# Altium footprint library PCB11.PcbLib: 19 footprints (part 1 of 2)
Each footprint in its own frame and in the unit in brackets; x right, y up, seen from the top. Pads: shape width x height; smd on the part's side, far side on the other; paste and mask are expansions set on the pad; w line width, h text height; cw(c..) or ccw(c..) is an arc to the next point about the centre after c.
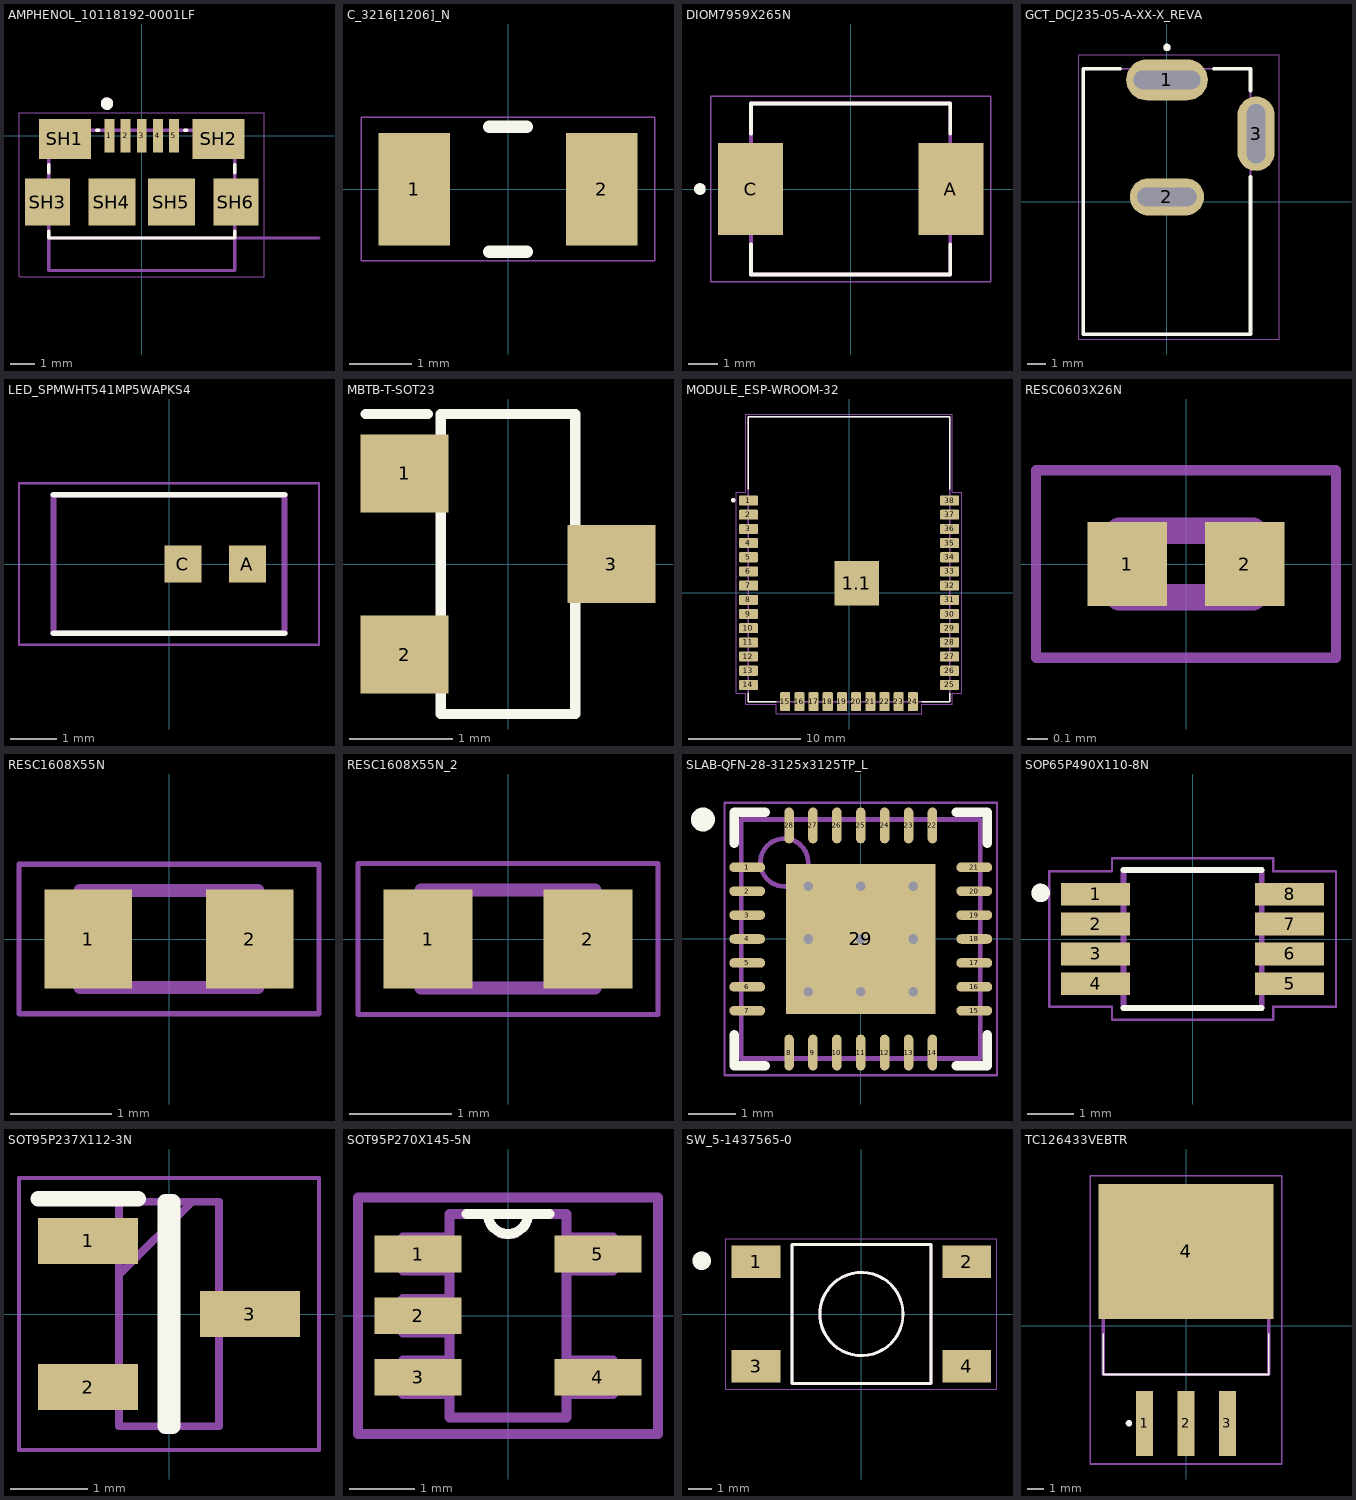
[diagram p0: the footprints below, top view; thin cyan lines are the x and y axes]

## AMPHENOL_10118192-0001LF [mm]
pads (11):
  rect 0.4x1.35 smd: 1(-1.3,0) 2(-0.65,0) 3(0,0) 4(0.65,0) 5(1.3,0)
  rect 2.1x1.6 smd: SH1(-3.1,-0.125) SH2(3.1,-0.125)
  rect 1.8x1.9 smd: SH3(-3.8,-2.675) SH6(3.8,-2.675)
  rect 1.9x1.9 smd: SH4(-1.2,-2.675) SH5(1.2,-2.675)
Top Overlay:
  circle w0.3: c-1.4,1.3 r0.1
  lines w0.127: -3.75,-3.85 -3.75,-4.125 3.75,-4.125 3.75,-3.85 ; -3.75,-1.5 -3.75,-1.15 ; -1.83,0.225 -1.72,0.225 ; 1.72,0.225 1.83,0.225 ; 3.75,-1.5 3.75,-1.15
Mechanical 13:
  circle w0.3: c-1.4,1.3 r0.1
  lines w0.127: 7.15,-4.125 3.75,-4.125 ; -3.75,-4.125 -3.75,-5.436 3.75,-5.436 3.75,-4.125 ; -3.75,-4.125 -3.75,0.225 3.75,0.225 3.75,-4.125 ; -3.75,-4.125 3.75,-4.125
  text "PCB Edge" at -4.145,-7.019 h0.81
Mechanical 15:
  lines w0.05: -4.95,-5.686 4.95,-5.686 4.95,0.925 -4.95,0.925 -4.95,-5.686
3D body "step_temp.STEP": height 2.7, standoff -0.27, extent -3.95,-2.41 3.95,3.21

## C_3216[1206]_N [mm]
pads (2):
  rect 1.15x1.8 smd: 1(-1.5,0) 2(1.5,0)
Top Overlay:
  lines w0.2: -0.3,-1 0.3,-1 ; -0.3,1 0.3,1
Mechanical 15:
  lines w0.025: -2.35,-1.15 -2.35,1.15 2.35,1.15 2.35,-1.15 -2.35,-1.15
3D body "SW3dPS-1206 SMD Capacitor.STEP": height 1, standoff 0, extent -1.6,-0.8 1.6,0.8

## DIOM7959X265N [mm]
pads (2):
  rect 2.25x3.18 smd: A(3.455,0) C(-3.455,0)
Top Overlay:
  circle w0.2: c-5.2,0 r0.1
  lines w0.127: -3.437,-1.91 -3.437,-2.95 3.437,-2.95 3.437,-1.91 ; -3.437,1.91 -3.437,2.95 3.437,2.95 3.437,1.91
Mechanical 13:
  circle w0.2: c-5.2,0 r0.1
  lines w0.127: -3.437,-2.95 -3.437,2.95 3.437,2.95 3.437,-2.95 -3.437,-2.95
Mechanical 15:
  lines w0.05: -4.83,-3.2 4.83,-3.2 4.83,3.2 -4.83,3.2 -4.83,-3.2
3D body "step_temp.STEP": height 1.2, standoff -1.41, extent -3.975,-2.95 3.975,2.95

## GCT_DCJ235-05-A-XX-X_REVA [mm]
pads (3):
  oval 4.4x2.2 hole 1 slot 3.6 at 0 deg: 1(0,6.55)
  oval 4x2 hole 1 slot 3.2 at 0 deg: 2(0,0.25)
  oval 2x4 hole 1 slot 3.2 at 90 deg: 3(4.8,3.65)
Top Overlay:
  circle w0.2: c0,8.3 r0.1
  lines w0.2: -2.52,7.15 -4.5,7.15 -4.5,-7.15 4.5,-7.15 4.5,1.33 ; 2.52,7.15 4.5,7.15 4.5,5.97
Mechanical 13:
  circle w0.2: c0,8.3 r0.1
  lines w0.1: -4.5,-7.15 4.5,-7.15 4.5,7.15 -4.5,7.15 -4.5,-7.15
Mechanical 15:
  lines w0.05: -4.75,-7.4 6.05,-7.4 6.05,7.9 -4.75,7.9 -4.75,-7.4

## LED_SPMWHT541MP5WAPKS4 [mm]
pads (2):
  rect 0.8x0.8 smd paste-1 mask+0: A(1.7,0) C(0.3,0)
Top Overlay:
  lines w0.127: -2.5,-1.5 2.5,-1.5 ; -2.5,1.5 2.5,1.5
Mechanical 13:
  lines w0.127: -2.5,-1.5 -2.5,1.5 2.5,1.5 2.5,-1.5 -2.5,-1.5
Mechanical 15:
  lines w0.05: -3.25,-1.75 -3.25,1.75 3.25,1.75 3.25,-1.75 -3.25,-1.75
3D body "step_temp.STEP": height 0.8, standoff 0, extent -2.8,-1.5 2.8,1.5

## MBTB-T-SOT23 [mm]
pads (3):
  rect 0.85x0.75 smd: 1(-1,0.875) 2(-1,-0.875) 3(1,0)
Top Overlay:
  lines w0.1: -1.375,1.45 -0.775,1.45 ; -0.65,-1.45 0.65,-1.45 0.65,1.45 -0.65,1.45 -0.65,-1.45

## MODULE_ESP-WROOM-32 [mm]
pads (39):
  rrect22% 1.7x0.9 smd: 1(-9,8.255) 2(-9,6.985) 3(-9,5.715) 4(-9,4.445) 5(-9,3.175) 6(-9,1.905) 7(-9,0.635) 8(-9,-0.635) 9(-9,-1.905) 10(-9,-3.175) 11(-9,-4.445) 12(-9,-5.715) 13(-9,-6.985) 14(-9,-8.255) 25(9,-8.255) 26(9,-6.985) 27(9,-5.715) 28(9,-4.445) 29(9,-3.175) 30(9,-1.905) 31(9,-0.635) 32(9,0.635) 33(9,1.905) 34(9,3.175) 35(9,4.445) 36(9,5.715) 37(9,6.985) 38(9,8.255)
  rect 4x4 smd: 1.1(0.7,0.845)
  rrect22% 0.9x1.7 smd: 15(-5.715,-9.755) 16(-4.445,-9.755) 17(-3.175,-9.755) 18(-1.905,-9.755) 19(-0.635,-9.755) 20(0.635,-9.755) 21(1.905,-9.755) 22(3.175,-9.755) 23(4.445,-9.755) 24(5.715,-9.755)
Top Overlay:
  circle w0.2: c-10.365,8.275 r0.1
  lines w0.127: -9,-9 -9,-9.75 -6.5,-9.75 ; -9,9.25 -9,15.75 9,15.75 9,9.25 ; 6.5,-9.75 9,-9.75 9,-9
Mechanical 13:
  lines w0.127: -9,-9.755 -9,15.745 9,15.745 9,-9.755 -9,-9.755
Mechanical 15:
  lines w0.05: -10.1,-9 -10.1,9 -9.25,9 -9.25,16 9.25,16 9.25,9 10.1,9 10.1,-9 9.25,-9 9.25,-10 6.5,-10 6.5,-10.855 -6.5,-10.855 -6.5,-10 -9.25,-10 -9.25,-9 -10.1,-9
3D body "step_temp.STEP": height 3.25, standoff 0, extent -9,-12.75 9,12.75

## RESC0603X26N [mm]
pads (2):
  rect 0.38x0.4 smd: 1(-0.281,0) 2(0.281,0)
Mechanical 13:
  lines w0.127: -0.32,-0.16 -0.32,0.16 0.32,0.16 0.32,-0.16 -0.32,-0.16
Mechanical 15:
  lines w0.05: -0.718,-0.448 -0.718,0.448 0.718,0.448 0.718,-0.448 -0.718,-0.448
3D body "step_temp.STEP": height 0.26, standoff 0, extent -0.3,-0.15 0.3,0.15

## RESC1608X55N [mm]
pads (2):
  rect 0.87x0.98 smd: 1(-0.8,0) 2(0.8,0)
Mechanical 13:
  lines w0.127: -0.88,-0.48 -0.88,0.48 0.88,0.48 0.88,-0.48 -0.88,-0.48
Mechanical 15:
  lines w0.05: -1.485,-0.74 -1.485,0.74 1.485,0.74 1.485,-0.74 -1.485,-0.74
3D body "step_temp.STEP": height 0.55, standoff 0, extent -0.8,-0.4 0.8,0.4

## RESC1608X55N_2 [mm]
pads (2):
  rect 0.87x0.97 smd: 1(-0.78,0) 2(0.78,0)
Mechanical 13:
  lines w0.127: -0.85,-0.48 -0.85,0.48 0.85,0.48 0.85,-0.48 -0.85,-0.48
Mechanical 15:
  lines w0.05: -1.465,-0.737 -1.465,0.737 1.465,0.737 1.465,-0.737 -1.465,-0.737
3D body "step_temp.STEP": height 0.55, standoff 0, extent -0.8,-0.4 0.8,0.4

## SLAB-QFN-28-3125x3125TP_L [mm]
pads (29):
  oval 0.75x0.2 smd: 1(-2.375,1.5) 2(-2.375,1) 3(-2.375,0.5) 4(-2.375,0) 5(-2.375,-0.5) 6(-2.375,-1) 7(-2.375,-1.5) 15(2.375,-1.5) 16(2.375,-1) 17(2.375,-0.5) 18(2.375,0) 19(2.375,0.5) 20(2.375,1) 21(2.375,1.5)
  oval 0.2x0.75 smd: 8(-1.5,-2.375) 9(-1,-2.375) 10(-0.5,-2.375) 11(0,-2.375) 12(0.5,-2.375) 13(1,-2.375) 14(1.5,-2.375) 22(1.5,2.375) 23(1,2.375) 24(0.5,2.375) 25(0,2.375) 26(-0.5,2.375) 27(-1,2.375) 28(-1.5,2.375)
  rect 3.13x3.13 smd: 29(0,0)
via 1.1,-1.1 diameter 0.5 hole 0.2
via 0,-1.1 diameter 0.5 hole 0.2
via -1.1,-1.1 diameter 0.5 hole 0.2
via 1.1,0 diameter 0.5 hole 0.2
via 0,0 diameter 0.5 hole 0.2
via -1.1,0 diameter 0.5 hole 0.2
via 1.1,1.1 diameter 0.5 hole 0.2
via 0,1.1 diameter 0.5 hole 0.2
via -1.1,1.1 diameter 0.5 hole 0.2
Top Overlay:
  circle w0.25: c-3.3,2.5 r0.125
  lines w0.2: -2.65,-2 -2.65,-2.65 -2,-2.65 ; -2.65,2 -2.65,2.65 -2,2.65 ; 2,-2.65 2.65,-2.65 2.65,-2 ; 2,2.65 2.65,2.65 2.65,2
Mechanical 13:
  circle w0.1: c-1.6,1.6 r0.5
  lines w0.1: -2.5,-2.5 2.5,-2.5 2.5,2.5 -2.5,2.5 -2.5,-2.5
Mechanical 15:
  lines w0.05: -2.85,-2.85 2.85,-2.85 2.85,2.85 -2.85,2.85 -2.85,-2.85
  lines w0.1: -0.5,0 0.5,0 ; 0,-0.5 0,0.5
3D body: height 1, standoff 0, extent -2.5,-2.5 2.5,2.5

## SOP65P490X110-8N [mm]
pads (8):
  rect 1.5x0.49 smd: 1(-2.105,0.975) 2(-2.105,0.325) 3(-2.105,-0.325) 4(-2.105,-0.975) 5(2.105,-0.975) 6(2.105,-0.325) 7(2.105,0.325) 8(2.105,0.975)
Top Overlay:
  circle w0.2: c-3.3,1 r0.1
  lines w0.127: -1.5,-1.5 1.5,-1.5 ; -1.5,1.5 1.5,1.5
Mechanical 13:
  circle w0.2: c-3.3,1 r0.1
  lines w0.127: -1.5,-1.5 -1.5,1.5 1.5,1.5 1.5,-1.5 -1.5,-1.5
Mechanical 15:
  lines w0.05: -3.11,-1.47 -3.11,1.47 -1.75,1.47 -1.75,1.75 1.75,1.75 1.75,1.47 3.11,1.47 3.11,-1.47 1.75,-1.47 1.75,-1.75 -1.75,-1.75 -1.75,-1.47 -3.11,-1.47

## SOT95P237X112-3N [mm]
pads (3):
  rect 1.3x0.6 smd: 1(-1.05,0.95) 2(-1.05,-0.95) 3(1.05,0)
Top Overlay:
  lines w0.2: -1.7,1.5 -0.4,1.5 ; -0.05,-1.46 0.05,-1.46 0.05,1.46 -0.05,1.46 -0.05,-1.46
Mechanical 13:
  lines w0.1: -0.65,0.51 0.3,1.46 ; -0.65,-1.46 0.65,-1.46 0.65,1.46 -0.65,1.46 -0.65,-1.46
Mechanical 15:
  lines w0.05: -1.95,-1.77 1.95,-1.77 1.95,1.77 -1.95,1.77 -1.95,-1.77
3D body "IRLM6402.stp": height 1.12, standoff 0, extent -1.185,-1.46 1.185,1.46

## SOT95P270X145-5N [mil]
pads (5):
  rect 52x22 smd: 1(-54,37) 2(-54,0) 3(-54,-37) 4(54,-37) 5(54,37)
Top Overlay:
  lines w6: -25,61 -12,61 ; 25,61 12,61 ; -12,61 ccw(c0,61) 12,61 ; -12,61 12,61
Mechanical 13:
  lines w6: -35,-47 -63,-47 -63,-27 -35,-27 ; -35,-47 -35,-27 ; -35,-47 -35,-61 35,-61 35,-47 ; -35,-27 -35,-10 ; -35,-10 -63,-10 -63,10 -35,10 ; -35,-10 -35,10 ; -35,10 -35,27 ; -35,27 -63,27 -63,47 -35,47 ; -35,27 -35,47 ; -35,47 -35,61 -12,61 ; -12,61 ccw(c0,61) 12,61 ; -12,61 12,61 ; 12,61 35,61 35,47 ; 35,-47 63,-47 63,-27 35,-27 ; 35,-47 35,-27 ; 35,-27 35,27 ; 35,27 63,27 63,47 35,47 ; 35,27 35,47
Mechanical 15:
  lines w6: -90,-71 -90,71 90,71 90,-71 -90,-71
3D body "step_temp.STEP": height 57.09, standoff 0, extent -57.09,-53.15 57.09,53.15

## SW_5-1437565-0 [mm]
pads (4):
  rect 2.1x1.4 smd: 1(-4.55,2.25) 2(4.55,2.25) 3(-4.55,-2.25) 4(4.55,-2.25)
Top Overlay:
  circle w0.4: c-6.9,2.3 r0.2
  circle w0.127: c0,0 r1.796
  lines w0.127: -3,-3 3,-3 3,3 -3,3 -3,-3
Mechanical 13:
  circle w0.127: c0,0 r1.796
  lines w0.127: -3,-3 3,-3 3,3 -3,3 -3,-3
Mechanical 15:
  lines w0.05: -5.85,-3.25 -5.85,3.25 5.85,3.25 5.85,-3.25 -5.85,-3.25
3D body "step_temp.STEP": height 7.26, standoff 0, extent -3,-5 3,5

## TC126433VEBTR [mm]
pads (4):
  rect 1.041x3.988 smd: 1(-2.54,-6.009) 2(0,-6.009) 3(2.54,-6.009)
  rect 10.744x8.306 smd: 4(0,4.545)
Top Overlay:
  lines w0.1: -5.08,-0.508 -5.08,-3.008 5.08,-3.008 5.08,-0.508
  lines w0.2: -3.5,-6.1 cw(c-3.5,-6) -3.5,-5.9 cw(c-3.5,-6) -3.5,-6.1
Mechanical 13:
  lines w0.2: -5.08,-3.008 5.08,-3.008 5.08,6.008 -5.08,6.008 -5.08,-3.008
Mechanical 15:
  lines w0.1: -5.872,-8.502 5.872,-8.502 5.872,9.198 -5.872,9.198 -5.872,-8.502